# EAGLE library part IS61WV25616EDBLL-10TLI (library IS61WV25616EDBLL-10TLI)
ISSI,IS61WV25616EDBLL-10TLI SRAM 4Mb 3V ISSI IS61WV25616EDBLL-10TLI SRAM Memory, 4Mbit, 2.4 3.6 V, 10ns 44-Pin TSOP Source: Datasheet <https://www.mouser.com/ds/2/198/61-64WV25616EDBLL-258483.pdf>
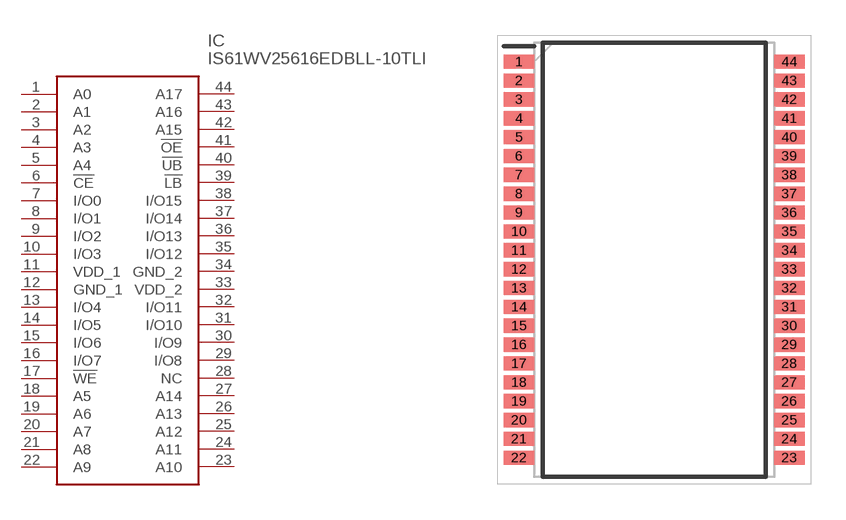
[diagram p0: symbol with the pads of SOP80P1176X120-44N; footprint SOP80P1176X120-44N]

Designator prefix IC

## IS61WV25616EDBLL-10TLI (Description: ISSI,IS61WV25616EDBLL-10TLI SRAM 4Mb 3V ISSI IS61WV25616EDBLL-10TLI SRAM Memory, 4Mbit, 2.4 3.6 V, 10ns 44-Pin TSOP; Height: 1.2mm; Manufacturer_Name: Integrated Silicon Solution Inc.; Manufacturer_Part_Number: IS61WV25616EDBLL-10TLI; Mouser_Part_Number: 870-61WV25616EDBLL10; Mouser_Price-Stock: https://www.mouser.com/Search/Refine.aspx?Keyword=870-61WV25616EDBLL10; RS_Part_Number: 8115185P; RS_Price-Stock: http://uk.rs-online.com/web/p/products/8115185P)  [SOP80P1176X120-44N]
1  A0
2  A1
3  A2
4  A3
5  A4
6  !CE
7  I/O0
8  I/O1
9  I/O2
10  I/O3
11  VDD_1
12  GND_1
13  I/O4
14  I/O5
15  I/O6
16  I/O7
17  !WE
18  A5
19  A6
20  A7
21  A8
22  A9
23  A10
24  A11
25  A12
26  A13
27  A14
28  NC  nc
29  I/O8
30  I/O9
31  I/O10
32  I/O11
33  VDD_2
34  GND_2
35  I/O12
36  I/O13
37  I/O14
38  I/O15
39  !LB
40  !UB
41  !OE
42  A15
43  A16
44  A17

## Footprint SOP80P1176X120-44N (pad centres in mm)
400mil_TSOP_2
smd 1.295 x 0.6: 1 -5.728,8.4; 2 -5.728,7.6; 3 -5.728,6.8; 4 -5.728,6; 5 -5.728,5.2; 6 -5.728,4.4; 7 -5.728,3.6; 8 -5.728,2.8; 9 -5.728,2; 10 -5.728,1.2; 11 -5.728,0.4; 12 -5.728,-0.4; 13 -5.728,-1.2; 14 -5.728,-2; 15 -5.728,-2.8; 16 -5.728,-3.6; 17 -5.728,-4.4; 18 -5.728,-5.2; 19 -5.728,-6; 20 -5.728,-6.8; 21 -5.728,-7.6; 22 -5.728,-8.4; 23 5.728,-8.4; 24 5.728,-7.6; 25 5.728,-6.8; 26 5.728,-6; 27 5.728,-5.2; 28 5.728,-4.4; 29 5.728,-3.6; 30 5.728,-2.8; 31 5.728,-2; 32 5.728,-1.2; 33 5.728,-0.4; 34 5.728,0.4; 35 5.728,1.2; 36 5.728,2; 37 5.728,2.8; 38 5.728,3.6; 39 5.728,4.4; 40 5.728,5.2; 41 5.728,6; 42 5.728,6.8; 43 5.728,7.6; 44 5.728,8.4